# EAGLE library part LIS2DW12TR (library misc)
MEMS digital output motion sensor: high-performance ultra-low-power 3-axis "femto" accelerometer
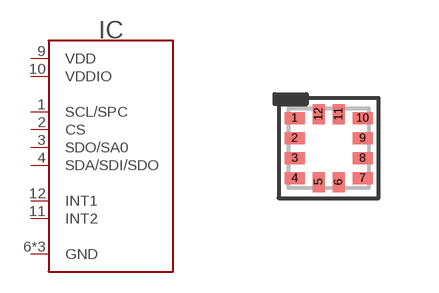
[diagram p94: symbol with the pads of VFLGA12; footprint VFLGA12]

Designator prefix IC

## LIS2DW12TR (LCSC#: C189624; MANF: STMicroelectronics; MANF#: LIS2DW12TR)  [VFLGA12]
1  SCL/SPC
2  CS
3  SDO/SA0
4  SDA/SDI/SDO
6  GND
7  GND
8  GND
9  VDD
10  VDDIO
11  INT2
12  INT1

## Footprint VFLGA12 (pad centres in mm)
smd 0.5 x 0.3: 1 -0.85,0.75; 2 -0.85,0.25; 3 -0.85,-0.25; 4 -0.85,-0.75; 7 0.85,-0.75; 8 0.85,-0.25; 9 0.85,0.25; 10 0.85,0.75
smd 0.3 x 0.5: 5 -0.25,-0.85; 6 0.25,-0.85; 11 0.25,0.85; 12 -0.25,0.85